# Altium schematic symbol library E20_10_6_N87_2.Schlib: 1 symbol
Pins are listed as number, name and electrical type; pins without a type are passive.

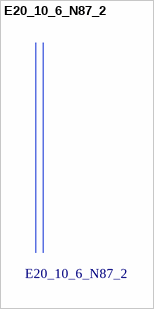
[diagram p0: symbol E20_10_6_N87_2]

## E20_10_6_N87_2
designator CORE?